# Altium footprint library lib_newhaven.PcbLib: 1 footprints
Each footprint in its own frame and in the unit in brackets; x right, y up, seen from the top. Pads: shape width x height; smd on the part's side, far side on the other; paste and mask are expansions set on the pad; w line width, h text height; cw(c..) or ccw(c..) is an arc to the next point about the centre after c.
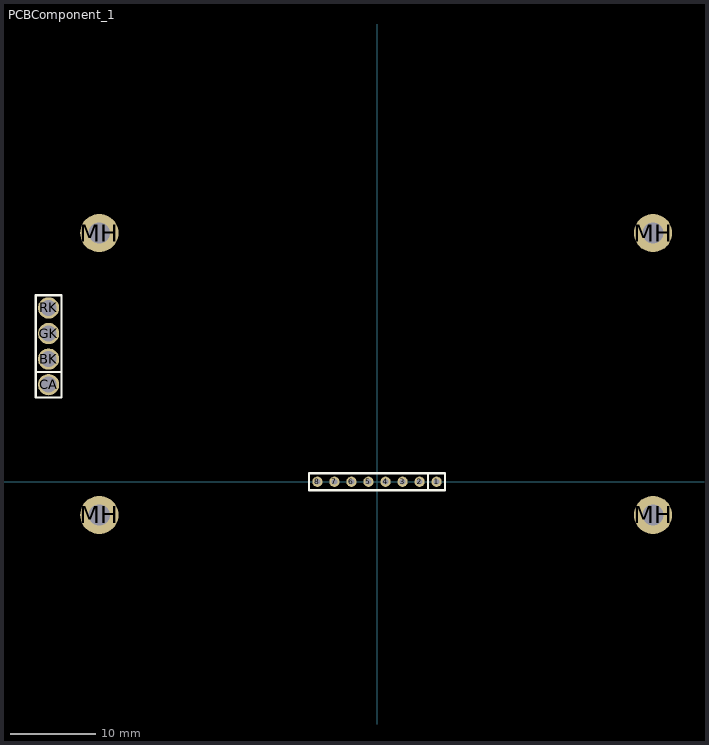
[diagram p0: the footprint, top view; thin cyan lines are the x and y axes]

## PCBComponent_1 [mm]
pads (16):
  round 1.2 hole 0.7: 1(7,0) 2(5,0) 3(3,0) 4(1,0) 5(-1,0) 6(-3,0) 7(-5,0) 8(-7,0)
  round 2.5 hole 1.9: BK(-38.55,14.4) CA(-38.55,11.4) GK(-38.55,17.4) RK(-38.55,20.4)
  round 4.5 hole 2.5: MH(-32.6,-3.9) MH(-32.6,29.2) MH(32.4,-3.9) MH(32.4,29.2)
Top Overlay:
  lines w0.254: -40.05,12.9 -37.05,12.9 ; 6,-1 6,1 ; -40.05,9.9 -40.05,21.9 -37.05,21.9 -37.05,9.9 -40.05,9.9 ; -8,-1 8,-1 8,1 -8,1 -8,-1
3D body "NHD-C0220BiZ-FS_RGB-FBW-3VM.STEP": height 9.3, standoff -1.7, extent -40,-6.15 35.7,31.45
3D body: height 0.25, standoff 0, extent 0,13 0,13
3D body: height 0.25, standoff 0, extent -2,15 -2,15